# EAGLE library part 1X8DFR (library header_3d)
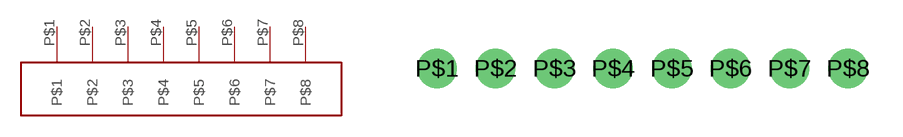
[diagram p3: symbol with the pads of 1X8DFR; footprint 1X8DFR]

Designator prefix -

## 1X8DFR  [1X8DFR]
P$1  P$1
P$2  P$2
P$3  P$3
P$4  P$4
P$5  P$5
P$6  P$6
P$7  P$7
P$8  P$8

## Footprint 1X8DFR (pad centres in mm)
drill 1.092 pad 1.702: P$1 0,0; P$2 2.54,0; P$3 5.08,0; P$4 7.62,0; P$5 10.16,0; P$6 12.7,0; P$7 15.24,0; P$8 17.78,0